# Altium footprint library aiskylab-14Connectors-08Board2BoardCon.PcbLib: 1 footprints
Each footprint in its own frame and in the unit in brackets; x right, y up, seen from the top. Pads: shape width x height; smd on the part's side, far side on the other; paste and mask are expansions set on the pad; w line width, h text height; cw(c..) or ccw(c..) is an arc to the next point about the centre after c.
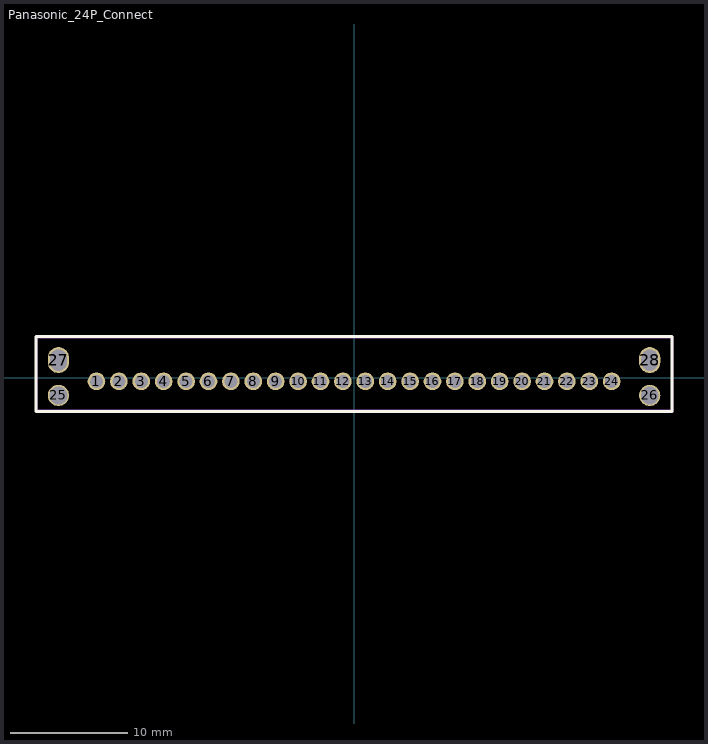
[diagram p0: the footprint, top view; thin cyan lines are the x and y axes]

## Panasonic_24P_Connect [mm]
pads (28):
  round 1.5 hole 1.1: 1(-21.85,-0.3) 2(-19.95,-0.3) 3(-18.05,-0.3) 4(-16.15,-0.3) 5(-14.25,-0.3) 6(-12.35,-0.3) 7(-10.45,-0.3) 8(-8.55,-0.3) 9(-6.65,-0.3) 10(-4.75,-0.3) 11(-2.85,-0.3) 12(-0.95,-0.3) 13(0.95,-0.3) 14(2.85,-0.3) 15(4.75,-0.3) 16(6.65,-0.3) 17(8.55,-0.3) 18(10.45,-0.3) 19(12.35,-0.3) 20(14.25,-0.3) 21(16.15,-0.3) 22(18.05,-0.3) 23(19.95,-0.3) 24(21.85,-0.3)
  round 1.8 hole 1.5: 25(-25.075,-1.5) 26(25.075,-1.5)
  oval 1.8x2.2 hole 1.4 slot 1.8 at 90 deg: 27(-25.075,1.5) 28(25.075,1.5)
Top Overlay:
  lines w0.254: -26.995,-2.84 26.98,-2.84 26.98,3.51 -26.995,3.51 -26.995,-2.84
Top Designator:
  text ".Designator" at -7.625,1.906 h1.52
Top Assembly:
  lines w0.2: -26.949,3.454 -26.949,-2.794 26.899,-2.794 26.975,-2.87 26.975,3.429 -26.924,3.429
Top Component Outline:
  lines w0.2: -26.949,3.454 -26.949,-2.794 26.899,-2.794 26.975,-2.87 26.975,3.429 -26.924,3.429
3D body "G1充电插头--.stp": height 10, standoff -2, extent -26.325,-2.45 26.325,7.795